# Altium footprint library Trimpot_Pcb.PcbLib: 3 footprints
Each footprint in its own frame and in the unit in brackets; x right, y up, seen from the top. Pads: shape width x height; smd on the part's side, far side on the other; paste and mask are expansions set on the pad; w line width, h text height; cw(c..) or ccw(c..) is an arc to the next point about the centre after c.
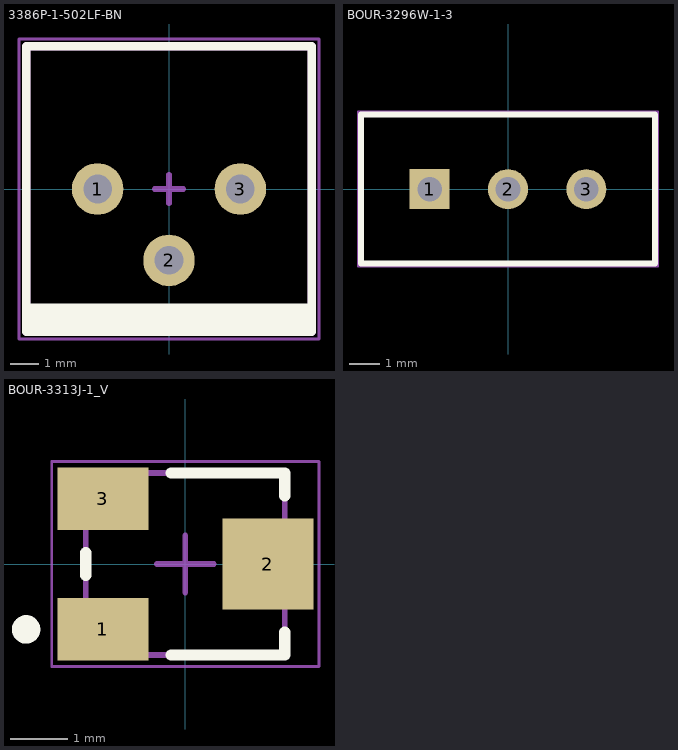
[diagram p0: the footprints below, top view; thin cyan lines are the x and y axes]

## 3386P-1-502LF-BN [mm]
pads (3):
  round 1.8 hole 1: 1(-2.5,0) 2(0,-2.5) 3(2.5,0)
Top Overlay:
  rectangle: -5,-5 5,-4
  lines w0.3: -5,-5 -5,5 5,5 5,-5 -5,-5
Mechanical 13:
  lines w0.3: -5,-5 -5,5 5,5 5,-5 -5,-5
  text ".Designator" at -3.25,2.032 h1.5
Mechanical 15:
  lines w0.1: -5.25,-5.25 -5.25,5.25 5.25,5.25 5.25,-5.25 -5.25,-5.25
  lines w0.2: -0.5,0 0.5,0 ; 0,-0.5 0,0.5
3D body "3386P.STEP": height 4.95, standoff -6.27, extent -4.765,-4.765 4.765,4.765

## BOUR-3296W-1-3 [mm] "THD, 3-Leads, Body 9.53x4.83mm, Pitch 2.54mm"
height 11.55
pads (3):
  rect 1.3x1.3 hole 0.8: 1(-2.54,0)
  round 1.3 hole 0.8: 2(0,0) 3(2.54,0)
Top Overlay:
  lines w0.2: -4.765,-2.41 4.765,-2.41 4.765,2.42 -4.765,2.42 -4.765,-2.41
Mechanical 13:
  lines w0.1: -4.765,-2.41 -4.765,2.42 4.765,2.42 4.765,-2.41 -4.765,-2.41
Mechanical 15:
  lines w0.05: -4.865,-2.51 -4.865,2.52 4.865,2.52 4.865,-2.51 -4.865,-2.51
  lines w0.1: -0.5,0 0.5,0 ; 0,-0.5 0,0.5
3D body "3296W.stp": height 11.55, standoff -6.4, extent -4.762,-2.41 4.762,2.416

## BOUR-3313J-1_V [mm] "SMD, 3-Leads, Body 3.5x3.2mm, Pitch 1.15mm"
height 2.4
pads (3):
  rect 1.6x1.1 smd paste+0: 1(-1.45,-1.15) 3(-1.45,1.15)
  rect 1.6x1.6 smd paste+0: 2(1.45,0)
Top Overlay:
  circle w0.25: c-2.8,-1.15 r0.125
  lines w0.2: -1.75,-0.2 -1.75,0.2 ; -0.25,-1.6 1.75,-1.6 1.75,-1.2 ; -0.25,1.6 1.75,1.6 1.75,1.2
Mechanical 13:
  lines w0.1: -1.75,-1.6 -1.75,1.6 1.75,1.6 1.75,-1.6 -1.75,-1.6
Mechanical 15:
  lines w0.05: -2.35,-1.8 2.35,-1.8 2.35,1.8 -2.35,1.8 -2.35,-1.8
  lines w0.1: -0.5,0 0.5,0 ; 0,-0.5 0,0.5
3D body "3313J-001.stp": height 2.11, standoff -0.03, extent -1.753,-1.651 1.753,1.651